# EAGLE library part LPC82XMX01JDH20 (library heck)
LPC824M201JDH20 - 32KB flash, 8KB SRAM LPC822M101JDH20 - 16KB flash, 4KB SRAM
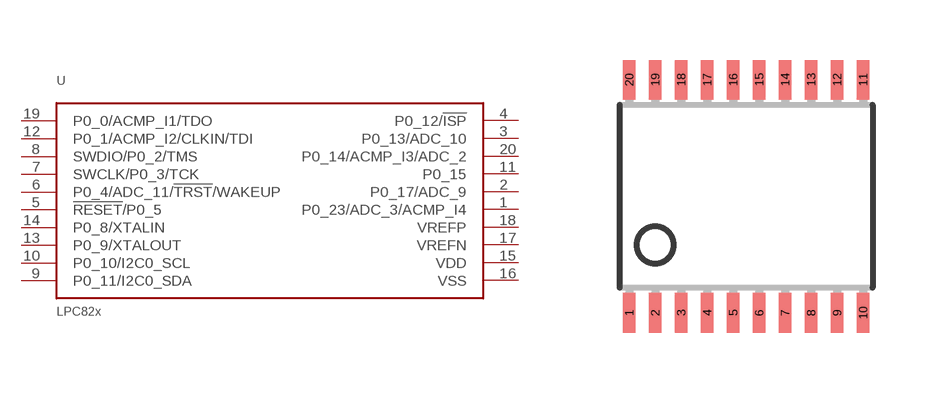
[diagram p34: symbol with the pads of TSSOP20; footprint TSSOP20]

Designator prefix -

## LPC82XMX01JDH20  [TSSOP20]
1  P0_23/ADC_3/ACMP_I4
2  P0_17/ADC_9
3  P0_13/ADC_10
4  P0_12/!ISP!
5  !RESET!/P0_5
6  P0_4/ADC_11/!TRST!/WAKEUP
7  SWCLK/P0_3/TCK
8  SWDIO/P0_2/TMS
9  P0_11/I2C0_SDA
10  P0_10/I2C0_SCL
11  P0_15
12  P0_1/ACMP_I2/CLKIN/TDI
13  P0_9/XTALOUT
14  P0_8/XTALIN
15  VDD  pwr
16  VSS  pwr
17  VREFN  pwr
18  VREFP  pwr
19  P0_0/ACMP_I1/TDO
20  P0_14/ACMP_I3/ADC_2

## Footprint TSSOP20 (pad centres in mm)
smd 0.305 x 0.991: 1 -2.925,-2.918; 2 -2.275,-2.918; 3 -1.625,-2.918; 4 -0.975,-2.918; 5 -0.325,-2.918; 6 0.325,-2.918; 7 0.975,-2.918; 8 1.625,-2.918; 9 2.275,-2.918; 10 2.925,-2.918; 11 2.925,2.918; 12 2.275,2.918; 13 1.625,2.918; 14 0.975,2.918; 15 0.325,2.918; 16 -0.325,2.918; 17 -0.975,2.918; 18 -1.625,2.918; 19 -2.275,2.918; 20 -2.925,2.918